# Altium schematic symbol library NPN BJT.SchLib: 3 symbols
Pins are listed as number, name and electrical type; pins without a type are passive.

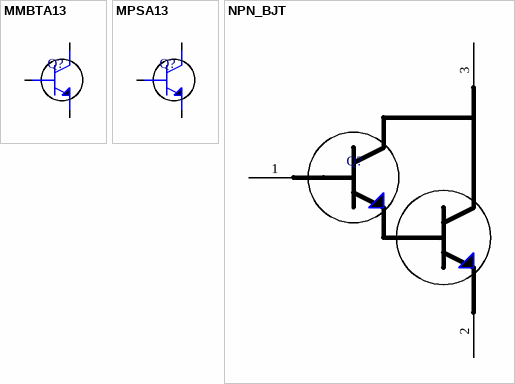
[diagram p0: symbols MMBTA13 to NPN_BJT]

## MMBTA13
designator Q?, comment ON_Semi_MMBTA13  (value not drawn)
TRANS NPN DARL 30V 1.2A SOT-23; Supplier 1: Digi-Key; Supplier Part Number 1: MMBTA13FSCT-ND
pins: BASE 1, COLLECTOR 3, EMMITER 2

## MPSA13
designator Q?, comment Central_Semi_MPSA18  (value not drawn)
TRANS NPN 45V 0.2A TO-92; Supplier 1: Digi-Key; Supplier Part Number 1: MPSA18CS-ND
pins: BASE 2, COLLECTOR 3, EMMITER 1

## NPN_BJT
designator Q?, comment On_Semi_MMBTA13  (value not drawn)
TRANS NPN DARL 30V 1.2A SOT-23; Supplier: Digikey; Supplier Part #: MMBTA13FSCT-ND
footprint NPN BJT (TRANS NPN DARL 30V 1.2A SOT-23)
pins: 1 BASE, 2 EMITTER, 3 COLLECTOR